# EAGLE library part HCPL2430 (library optocoupler)
HEWLETT PACKARD OPTO COUPLER
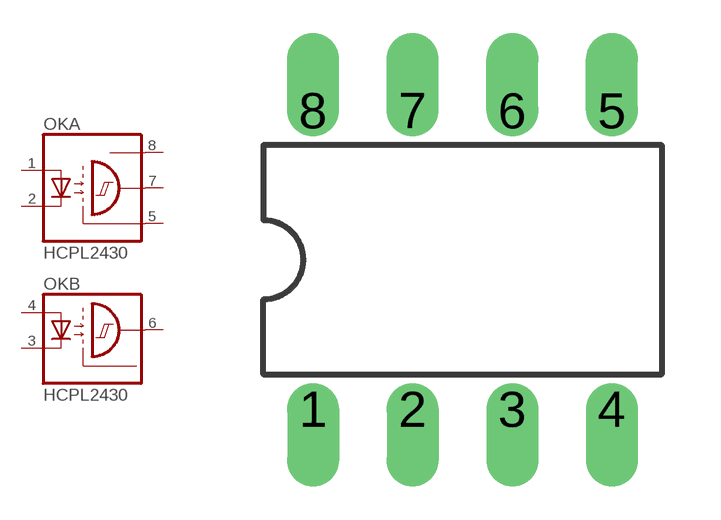
[diagram p32: symbol with the pads of DIL08; footprint DIL08]

Designator prefix OK; gates A=2231 B=2231A

## HCPL2430 (MF: AGILENT TECHNOLOGIES; MPN: HCPL-2430-000E; OC_FARNELL: 9129847; OC_NEWARK: 88H7807)  [DIL08]
1  A:A  pas
2  A:C  pas
3  B:C  pas
4  B:A  pas
5  A:GND  pas
6  B:OUT  pas
7  A:OUT  pas
8  A:VCC  pas

## Footprint DIL08 (pad centres in mm)
Dual In Line Package
drill 0.813 offset: 1 -3.81,-3.81; 2 -1.27,-3.81; 3 1.27,-3.81; 4 3.81,-3.81; 5 3.81,3.81; 6 1.27,3.81; 7 -1.27,3.81; 8 -3.81,3.81